# EAGLE library part AP1509 (library bt_regulator)
AP1509, 150KHz, 2A PWM BUCK DC/DC CONVERTER The AP1509 series are monolithic IC designed for a stepdown DC/DC converter, and own the ability of driving a 2A load without additional transistor. Datasheet.pdf <http://www.diodes.com/_files/datasheets/AP1509.pdf>
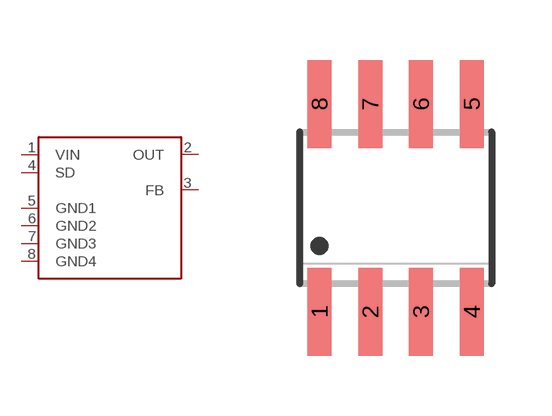
[diagram p3: symbol with the pads of SO08; footprint SO08]

Designator prefix U

## AP1509  [SO08]
1  VIN  pwr
2  OUT  out
3  FB  in
4  SD  in
5  GND1  pwr
6  GND2  pwr
7  GND3  pwr
8  GND4  pwr

## Footprint SO08 (pad centres in mm)
SMALL OUTLINE INTEGRATED CIRCUIT body 3.9 mm/JEDEC MS-012AA
smd 0.6 x 2.2: 1 -1.905,-2.6; 2 -0.635,-2.6; 3 0.635,-2.6; 4 1.905,-2.6; 5 1.905,2.6; 6 0.635,2.6; 7 -0.635,2.6; 8 -1.905,2.6